# Altium footprint library silabs.PCBLIB: 6 footprints
Each footprint in its own frame and in the unit in brackets; x right, y up, seen from the top. Pads: shape width x height; smd on the part's side, far side on the other; paste and mask are expansions set on the pad; w line width, h text height; cw(c..) or ccw(c..) is an arc to the next point about the centre after c.
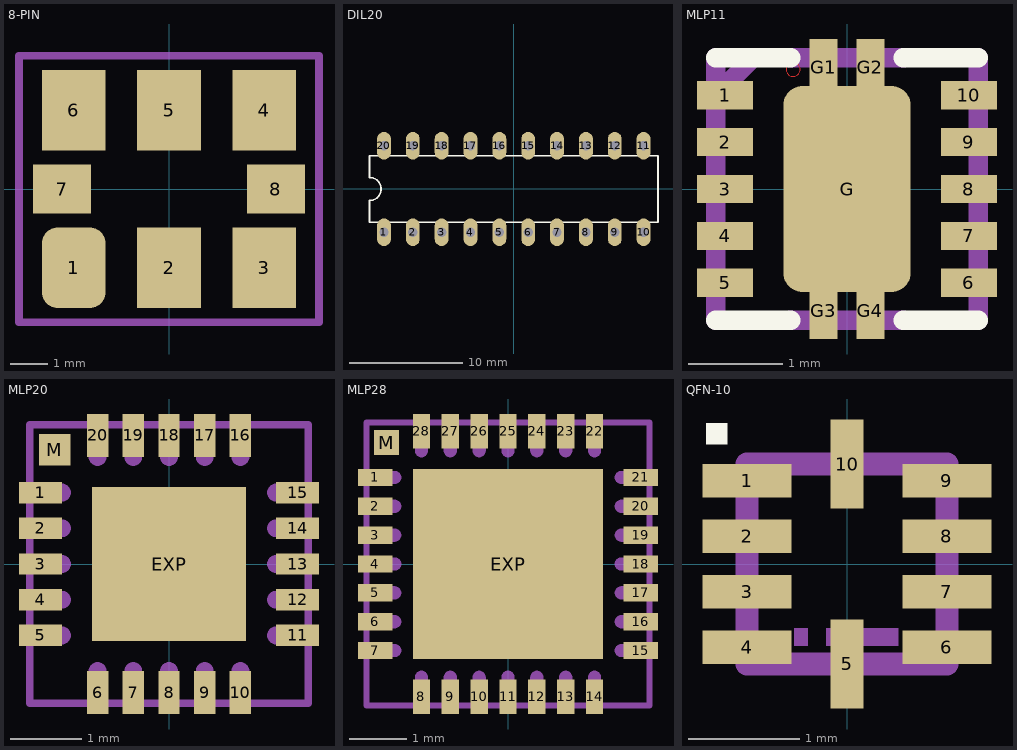
[diagram p0: the footprints below, top view; thin cyan lines are the x and y axes]

## 8-PIN [mm]
pads (8):
  rrect50% 1.7x2.15 smd: 1(-2.54,-2.1)
  rect 1.7x2.15 smd: 2(0,-2.1) 3(2.54,-2.1) 4(2.54,2.1) 5(0,2.1) 6(-2.54,2.1)
  rect 1.545x1.3 smd: 7(-2.852,0) 8(2.852,0)
Top Paste:
  rectangle: -3.325,1.075 -1.75,3.1
  rectangle: -3.55,-0.6 -2.15,0.6
  rectangle: -0.775,1.075 0.775,3.1
  region: 3.325,-1.075 1.75,-1.075 1.75,-3.1 3.325,-3.1
  region: 3.55,0.6 2.15,0.6 2.15,-0.6 3.55,-0.6
  region: 0.775,-1.075 -0.775,-1.075 -0.775,-3.1 0.775,-3.1
  region: 3.325,3.1 1.775,3.1 1.775,1.075 3.325,1.075
  region: 0,0 0.254,0 0.254,0.254 0,0.254
Top Solder:
  rectangle: -3.5,0.925 -1.575,3.275
  rectangle: -3.725,-0.75 -1.975,0.75
  rectangle: -0.96,0.925 0.965,3.275
  rectangle: 1.58,0.925 3.505,3.275
  region: 3.5,-0.925 1.575,-0.925 1.575,-3.275 3.5,-3.275
  region: 3.725,0.75 1.975,0.75 1.975,-0.75 3.725,-0.75
  region: 0.96,-0.925 -0.965,-0.925 -0.965,-3.275 0.96,-3.275
  region: 0,0 0.254,0 0.254,0.254 0,0.254
Mechanical 16:
  lines w0.203: -4,-3.55 4,-3.55 4,3.55 -4,3.55 -4,-3.55

## DIL20 [mil]
pads (20):
  oval 48x96 hole 32: 1(-450,-150) 2(-350,-150) 3(-250,-150) 4(-150,-150) 5(-50,-150) 6(50,-150) 7(150,-150) 8(250,-150) 9(350,-150) 10(450,-150) 11(450,150) 12(350,150) 13(250,150) 14(150,150) 15(50,150) 16(-50,150) 17(-150,150) 18(-250,150) 19(-350,150) 20(-450,150)
Top Overlay:
  lines w6: -500,-115 500,-115 500,115 -500,115 -500,40 cw(c-500,0) -500,-40 -500,-115

## MLP11 [mm]
pads (15):
  rect 0.6x0.3 smd: 1(-1.3,1) 2(-1.3,0.5) 3(-1.3,0) 4(-1.3,-0.5) 5(-1.3,-1) 6(1.3,-1) 7(1.3,-0.5) 8(1.3,0) 9(1.3,0.5) 10(1.3,1)
  rrect30% 1.36x2.2 smd: G(0,0)
  rect 0.3x0.6 smd: G1(-0.25,1.3) G2(0.25,1.3) G3(-0.25,-1.3) G4(0.25,-1.3)
Top Layer:
  circle w0: c-0.575,1.275 r0.075
Top Overlay:
  lines w0.203: -1.4,-1.4 -0.6,-1.4 ; -1.4,1.4 -0.6,1.4 ; 0.6,-1.4 1.4,-1.4 ; 0.6,1.4 1.4,1.4
Top Paste:
  rectangle: -0.39,1.01 -0.11,1.59
  rectangle: 0.11,1.01 0.39,1.59
  rectangle: -0.29,0.36 0.29,0.64
  rectangle: -0.29,-0.14 0.29,0.14
  rectangle: -0.29,-0.64 0.29,-0.36
  rectangle: -0.39,-1.59 -0.11,-1.01
  rectangle: 0.11,-1.59 0.39,-1.01
  rectangle: -1.59,0.86 -1.01,1.14
  rectangle: -1.59,0.36 -1.01,0.64
  rectangle: -1.59,-0.14 -1.01,0.14
  rectangle: -1.59,-0.64 -1.01,-0.36
  rectangle: -1.59,-1.14 -1.01,-0.86
  rectangle: 1.01,-1.14 1.59,-0.86
  rectangle: 1.01,-0.64 1.59,-0.36
  rectangle: 1.01,-0.14 1.59,0.14
  rectangle: 1.01,0.36 1.59,0.64
  rectangle: 1.01,0.86 1.59,1.14
Top Solder:
  rectangle: -0.4,1 -0.1,1.6
  rectangle: 0.1,1 0.4,1.6
  rectangle: -0.3,0.35 0.3,0.65
  rectangle: -0.3,-0.15 0.3,0.15
  rectangle: -0.3,-0.65 0.3,-0.35
  rectangle: -0.4,-1.6 -0.1,-1
  rectangle: 0.1,-1.6 0.4,-1
  rectangle: -1.6,0.85 -1,1.15
  rectangle: -1.6,0.35 -1,0.65
  rectangle: -1.6,-0.15 -1,0.15
  rectangle: -1.6,-0.65 -1,-0.35
  rectangle: -1.6,-1.15 -1,-0.85
  rectangle: 1,0.85 1.6,1.15
  rectangle: 1,0.35 1.6,0.65
  rectangle: 1,-0.15 1.6,0.15
  rectangle: 1,-0.65 1.6,-0.35
  rectangle: 1,-1.15 1.6,-0.85
Mechanical 14:
  region: 0,0 0.254,0 0.254,0.254 0,0.254
Mechanical 16:
  lines w0.203: -1.4,-1.4 -1.4,1 ; -1.4,1.4 -1.4,1 ; -1,1.4 -1.4,1 ; -0.6,-1.4 0.6,-1.4 ; -0.6,1.4 0.6,1.4 ; 1.4,-1.4 1.4,1.4

## MLP20 [mm]
pads (22):
  rect 0.6x0.3 smd: 1(-1.8,1) 2(-1.8,0.5) 3(-1.8,0) 4(-1.8,-0.5) 5(-1.8,-1) 11(1.8,-1) 12(1.8,-0.5) 13(1.8,0) 14(1.8,0.5) 15(1.8,1)
  rect 0.3x0.6 smd: 6(-1,-1.8) 7(-0.5,-1.8) 8(0,-1.8) 9(0.5,-1.8) 10(1,-1.8) 16(1,1.8) 17(0.5,1.8) 18(0,1.8) 19(-0.5,1.8) 20(-1,1.8)
  rect 2.15x2.15 smd: EXP(0,0)
  rect 0.435x0.435 smd: M(-1.6,1.6)
Top Paste:
  rectangle: -2.075,0.875 -1.525,1.125
  rectangle: -1.8,1.4 -1.4,1.8
  rectangle: -2.075,0.375 -1.525,0.625
  rectangle: -2.075,-0.125 -1.525,0.125
  rectangle: -2.075,-0.625 -1.525,-0.375
  rectangle: -2.075,-1.125 -1.525,-0.875
  region: -0.875,-2.075 -0.875,-1.525 -1.125,-1.525 -1.125,-2.075
  region: -0.375,-2.075 -0.375,-1.525 -0.625,-1.525 -0.625,-2.075
  region: 0.125,-2.075 0.125,-1.525 -0.125,-1.525 -0.125,-2.075
  region: 0.625,-2.075 0.625,-1.525 0.375,-1.525 0.375,-2.075
  region: 1.125,-2.075 1.125,-1.525 0.875,-1.525 0.875,-2.075
  region: 2.075,-0.875 1.525,-0.875 1.525,-1.125 2.075,-1.125
  region: 2.075,-0.375 1.525,-0.375 1.525,-0.625 2.075,-0.625
  region: 2.075,0.125 1.525,0.125 1.525,-0.125 2.075,-0.125
  region: 2.075,0.625 1.525,0.625 1.525,0.375 2.075,0.375
  region: 2.075,1.125 1.525,1.125 1.525,0.875 2.075,0.875
  region: 0.875,2.075 0.875,1.525 1.125,1.525 1.125,2.075
  region: 0.375,2.075 0.375,1.525 0.625,1.525 0.625,2.075
  region: -0.125,2.075 -0.125,1.525 0.125,1.525 0.125,2.075
  region: -0.625,2.075 -0.625,1.525 -0.375,1.525 -0.375,2.075
  region: -1.125,2.075 -1.125,1.525 -0.875,1.525 -0.875,2.075
  rectangle: -0.775,0.625 -0.225,0.875
  rectangle: 0.225,0.625 0.775,0.875
  rectangle: -0.775,0.125 -0.225,0.375
  rectangle: 0.225,0.125 0.775,0.375
  rectangle: -0.775,-0.375 -0.225,-0.125
  rectangle: 0.225,-0.375 0.775,-0.125
  rectangle: -0.775,-0.875 -0.225,-0.625
  rectangle: 0.225,-0.875 0.775,-0.625
Top Solder:
  rectangle: -2.1,0.85 -1.5,1.15
  rectangle: -1.82,1.38 -1.38,1.82
  rectangle: -2.1,0.35 -1.5,0.65
  rectangle: -2.1,-0.15 -1.5,0.15
  rectangle: -2.1,-0.65 -1.5,-0.35
  rectangle: -2.1,-1.15 -1.5,-0.85
  region: -0.85,-2.1 -0.85,-1.5 -1.15,-1.5 -1.15,-2.1
  region: -0.35,-2.1 -0.35,-1.5 -0.65,-1.5 -0.65,-2.1
  region: 0.15,-2.1 0.15,-1.5 -0.15,-1.5 -0.15,-2.1
  region: 0.65,-2.1 0.65,-1.5 0.35,-1.5 0.35,-2.1
  region: 1.15,-2.1 1.15,-1.5 0.85,-1.5 0.85,-2.1
  region: 2.1,-0.85 1.5,-0.85 1.5,-1.15 2.1,-1.15
  region: 2.1,-0.35 1.5,-0.35 1.5,-0.65 2.1,-0.65
  region: 2.1,0.15 1.5,0.15 1.5,-0.15 2.1,-0.15
  region: 2.1,0.65 1.5,0.65 1.5,0.35 2.1,0.35
  region: 2.1,1.15 1.5,1.15 1.5,0.85 2.1,0.85
  region: 0.85,2.1 0.85,1.5 1.15,1.5 1.15,2.1
  region: 0.35,2.1 0.35,1.5 0.65,1.5 0.65,2.1
  region: -0.15,2.1 -0.15,1.5 0.15,1.5 0.15,2.1
  region: -0.65,2.1 -0.65,1.5 -0.35,1.5 -0.35,2.1
  region: -1.15,2.1 -1.15,1.5 -0.85,1.5 -0.85,2.1
  rectangle: -0.8,0.6 -0.2,0.9
  rectangle: 0.2,0.6 0.8,0.9
  rectangle: -0.8,0.1 -0.2,0.4
  rectangle: 0.2,0.1 0.8,0.4
  rectangle: -0.8,-0.4 -0.2,-0.1
  rectangle: 0.2,-0.4 0.8,-0.1
  rectangle: -0.8,-0.9 -0.2,-0.6
  rectangle: 0.2,-0.9 0.8,-0.6
Mechanical 16:
  circle w0: c-1.6,1.6 r0.15
  rectangle: -2,0.875 -1.5,1.125
  rectangle: -2,0.375 -1.5,0.625
  rectangle: -2,-0.125 -1.5,0.125
  rectangle: -2,-0.625 -1.5,-0.375
  rectangle: -2,-1.125 -1.5,-0.875
  region: -0.875,-2 -0.875,-1.5 -1.125,-1.5 -1.125,-2
  region: -0.375,-2 -0.375,-1.5 -0.625,-1.5 -0.625,-2
  region: 0.125,-2 0.125,-1.5 -0.125,-1.5 -0.125,-2
  region: 0.625,-2 0.625,-1.5 0.375,-1.5 0.375,-2
  region: 1.125,-2 1.125,-1.5 0.875,-1.5 0.875,-2
  region: 2,-0.875 1.5,-0.875 1.5,-1.125 2,-1.125
  region: 2,-0.375 1.5,-0.375 1.5,-0.625 2,-0.625
  region: 2,0.125 1.5,0.125 1.5,-0.125 2,-0.125
  region: 2,0.625 1.5,0.625 1.5,0.375 2,0.375
  region: 2,1.125 1.5,1.125 1.5,0.875 2,0.875
  region: 0.875,2 0.875,1.5 1.125,1.5 1.125,2
  region: 0.375,2 0.375,1.5 0.625,1.5 0.625,2
  region: -0.125,2 -0.125,1.5 0.125,1.5 0.125,2
  region: -0.625,2 -0.625,1.5 -0.375,1.5 -0.375,2
  region: -1.125,2 -1.125,1.5 -0.875,1.5 -0.875,2
  lines w0.102: -1.95,-1.95 1.95,-1.95 1.95,1.95 -1.95,1.95 -1.95,-1.95
  lines w0.15: -1.5,-1.05 ccw(c-1.5,-1) -1.5,-0.95 ; -1.5,-0.55 ccw(c-1.5,-0.5) -1.5,-0.45 ; -1.5,-0.05 ccw(c-1.5,0) -1.5,0.05 ; -1.5,0.45 ccw(c-1.5,0.5) -1.5,0.55 ; -1.5,0.95 ccw(c-1.5,1) -1.5,1.05 ; -1.05,-1.5 cw(c-1,-1.5) -0.95,-1.5 ; -1.05,1.5 ccw(c-1,1.5) -0.95,1.5 ; -0.55,-1.5 cw(c-0.5,-1.5) -0.45,-1.5 ; -0.55,1.5 ccw(c-0.5,1.5) -0.45,1.5 ; -0.05,-1.5 cw(c0,-1.5) 0.05,-1.5 ; -0.05,1.5 ccw(c0,1.5) 0.05,1.5 ; 0.45,-1.5 cw(c0.5,-1.5) 0.55,-1.5 ; 0.45,1.5 ccw(c0.5,1.5) 0.55,1.5 ; 0.95,-1.5 cw(c1,-1.5) 1.05,-1.5 ; 0.95,1.5 ccw(c1,1.5) 1.05,1.5 ; 1.5,-1.05 cw(c1.5,-1) 1.5,-0.95 ; 1.5,-0.55 cw(c1.5,-0.5) 1.5,-0.45 ; 1.5,-0.05 cw(c1.5,0) 1.5,0.05 ; 1.5,0.45 cw(c1.5,0.5) 1.5,0.55 ; 1.5,0.95 cw(c1.5,1) 1.5,1.05

## MLP28 [mm]
pads (30):
  rect 0.6x0.3 smd: 1(-2.3,1.5) 2(-2.3,1) 3(-2.3,0.5) 4(-2.3,0) 5(-2.3,-0.5) 6(-2.3,-1) 7(-2.3,-1.5) 15(2.3,-1.5) 16(2.3,-1) 17(2.3,-0.5) 18(2.3,0) 19(2.3,0.5) 20(2.3,1) 21(2.3,1.5)
  rect 0.3x0.6 smd: 8(-1.5,-2.3) 9(-1,-2.3) 10(-0.5,-2.3) 11(0,-2.3) 12(0.5,-2.3) 13(1,-2.3) 14(1.5,-2.3) 22(1.5,2.3) 23(1,2.3) 24(0.5,2.3) 25(0,2.3) 26(-0.5,2.3) 27(-1,2.3) 28(-1.5,2.3)
  rect 3.3x3.3 smd: EXP(0,0)
  rect 0.435x0.435 smd: M(-2.103,2.103)
Top Paste:
  rectangle: -2.58,1.37 -2.02,1.63
  rectangle: -2.58,0.87 -2.02,1.13
  rectangle: -2.58,0.37 -2.02,0.63
  rectangle: -2.58,-0.13 -2.02,0.13
  rectangle: -2.58,-0.63 -2.02,-0.37
  rectangle: -2.58,-1.13 -2.02,-0.87
  rectangle: -2.58,-1.63 -2.02,-1.37
  region: -1.37,-2.58 -1.37,-2.02 -1.63,-2.02 -1.63,-2.58
  region: -0.87,-2.58 -0.87,-2.02 -1.13,-2.02 -1.13,-2.58
  region: -0.37,-2.58 -0.37,-2.02 -0.63,-2.02 -0.63,-2.58
  region: 0.13,-2.58 0.13,-2.02 -0.13,-2.02 -0.13,-2.58
  region: 0.63,-2.58 0.63,-2.02 0.37,-2.02 0.37,-2.58
  region: 1.13,-2.58 1.13,-2.02 0.87,-2.02 0.87,-2.58
  region: 1.63,-2.58 1.63,-2.02 1.37,-2.02 1.37,-2.58
  region: 2.58,-1.37 2.02,-1.37 2.02,-1.63 2.58,-1.63
  region: 2.58,-0.87 2.02,-0.87 2.02,-1.13 2.58,-1.13
  region: 2.58,-0.37 2.02,-0.37 2.02,-0.63 2.58,-0.63
  region: 2.58,0.13 2.02,0.13 2.02,-0.13 2.58,-0.13
  region: 2.58,0.63 2.02,0.63 2.02,0.37 2.58,0.37
  region: 2.58,1.13 2.02,1.13 2.02,0.87 2.58,0.87
  region: 2.58,1.63 2.02,1.63 2.02,1.37 2.58,1.37
  region: 1.37,2.58 1.37,2.02 1.63,2.02 1.63,2.58
  region: 0.87,2.58 0.87,2.02 1.13,2.02 1.13,2.58
  region: 0.37,2.58 0.37,2.02 0.63,2.02 0.63,2.58
  region: -0.13,2.58 -0.13,2.02 0.13,2.02 0.13,2.58
  region: -0.63,2.58 -0.63,2.02 -0.37,2.02 -0.37,2.58
  region: -1.13,2.58 -1.13,2.02 -0.87,2.02 -0.87,2.58
  region: -1.63,2.58 -1.63,2.02 -1.37,2.02 -1.37,2.58
  rectangle: -1.28,1.12 -0.72,1.38
  rectangle: -0.28,1.12 0.28,1.38
  rectangle: 0.72,1.12 1.28,1.38
  rectangle: -1.28,0.62 -0.72,0.88
  rectangle: -0.28,0.62 0.28,0.88
  rectangle: 0.72,0.62 1.28,0.88
  rectangle: -1.28,0.12 -0.72,0.38
  rectangle: -0.28,0.12 0.28,0.38
  rectangle: 0.72,0.12 1.28,0.38
  rectangle: -1.28,-0.38 -0.72,-0.12
  rectangle: -0.28,-0.38 0.28,-0.12
  rectangle: 0.72,-0.38 1.28,-0.12
  rectangle: -1.28,-0.88 -0.72,-0.62
  rectangle: -0.28,-0.88 0.28,-0.62
  rectangle: 0.72,-0.88 1.28,-0.62
  rectangle: -1.28,-1.38 -0.72,-1.12
  rectangle: -0.28,-1.38 0.28,-1.12
  rectangle: 0.72,-1.38 1.28,-1.12
  rectangle: -2.3,1.9 -1.9,2.3
Top Solder:
  rectangle: -2.6,1.35 -2,1.65
  rectangle: -2.6,0.85 -2,1.15
  rectangle: -2.6,0.35 -2,0.65
  rectangle: -2.6,-0.15 -2,0.15
  rectangle: -2.6,-0.65 -2,-0.35
  rectangle: -2.6,-1.15 -2,-0.85
  rectangle: -2.6,-1.65 -2,-1.35
  region: -1.35,-2.6 -1.35,-2 -1.65,-2 -1.65,-2.6
  region: -0.85,-2.6 -0.85,-2 -1.15,-2 -1.15,-2.6
  region: -0.35,-2.6 -0.35,-2 -0.65,-2 -0.65,-2.6
  region: 0.15,-2.6 0.15,-2 -0.15,-2 -0.15,-2.6
  region: 0.65,-2.6 0.65,-2 0.35,-2 0.35,-2.6
  region: 1.15,-2.6 1.15,-2 0.85,-2 0.85,-2.6
  region: 1.65,-2.6 1.65,-2 1.35,-2 1.35,-2.6
  region: 2.6,-1.35 2,-1.35 2,-1.65 2.6,-1.65
  region: 2.6,-0.85 2,-0.85 2,-1.15 2.6,-1.15
  region: 2.6,-0.35 2,-0.35 2,-0.65 2.6,-0.65
  region: 2.6,0.15 2,0.15 2,-0.15 2.6,-0.15
  region: 2.6,0.65 2,0.65 2,0.35 2.6,0.35
  region: 2.6,1.15 2,1.15 2,0.85 2.6,0.85
  region: 2.6,1.65 2,1.65 2,1.35 2.6,1.35
  region: 1.35,2.6 1.35,2 1.65,2 1.65,2.6
  region: 0.85,2.6 0.85,2 1.15,2 1.15,2.6
  region: 0.35,2.6 0.35,2 0.65,2 0.65,2.6
  region: -0.15,2.6 -0.15,2 0.15,2 0.15,2.6
  region: -0.65,2.6 -0.65,2 -0.35,2 -0.35,2.6
  region: -1.15,2.6 -1.15,2 -0.85,2 -0.85,2.6
  region: -1.65,2.6 -1.65,2 -1.35,2 -1.35,2.6
  rectangle: -2.353,1.852 -1.852,2.353
  rectangle: -1.3,1.1 -0.7,1.4
  rectangle: -0.3,1.1 0.3,1.4
  rectangle: 0.7,1.1 1.3,1.4
  rectangle: -1.3,0.6 -0.7,0.9
  rectangle: -0.3,0.6 0.3,0.9
  rectangle: 0.7,0.6 1.3,0.9
  rectangle: -1.3,0.1 -0.7,0.4
  rectangle: -0.3,0.1 0.3,0.4
  rectangle: 0.7,0.1 1.3,0.4
  rectangle: -1.3,-0.4 -0.7,-0.1
  rectangle: -0.3,-0.4 0.3,-0.1
  rectangle: 0.7,-0.4 1.3,-0.1
  rectangle: -1.3,-0.9 -0.7,-0.6
  rectangle: -0.3,-0.9 0.3,-0.6
  rectangle: 0.7,-0.9 1.3,-0.6
  rectangle: -1.3,-1.4 -0.7,-1.1
  rectangle: -0.3,-1.4 0.3,-1.1
  rectangle: 0.7,-1.4 1.3,-1.1
Mechanical 16:
  circle w0: c-2.095,2.108 r0.191
  rectangle: -2.5,1.385 -1.985,1.615
  rectangle: -2.5,0.885 -1.985,1.115
  rectangle: -2.5,0.385 -1.985,0.615
  rectangle: -2.5,-0.115 -1.985,0.115
  rectangle: -2.5,-0.615 -1.985,-0.385
  rectangle: -2.5,-1.115 -1.985,-0.885
  rectangle: -2.5,-1.615 -1.985,-1.385
  region: -1.385,-2.5 -1.385,-1.985 -1.615,-1.985 -1.615,-2.5
  region: -0.885,-2.5 -0.885,-1.985 -1.115,-1.985 -1.115,-2.5
  region: -0.385,-2.5 -0.385,-1.985 -0.615,-1.985 -0.615,-2.5
  region: 0.115,-2.5 0.115,-1.985 -0.115,-1.985 -0.115,-2.5
  region: 0.615,-2.5 0.615,-1.985 0.385,-1.985 0.385,-2.5
  region: 1.115,-2.5 1.115,-1.985 0.885,-1.985 0.885,-2.5
  region: 1.615,-2.5 1.615,-1.985 1.385,-1.985 1.385,-2.5
  region: 2.5,-1.385 1.985,-1.385 1.985,-1.615 2.5,-1.615
  region: 2.5,-0.885 1.985,-0.885 1.985,-1.115 2.5,-1.115
  region: 2.5,-0.385 1.985,-0.385 1.985,-0.615 2.5,-0.615
  region: 2.5,0.115 1.985,0.115 1.985,-0.115 2.5,-0.115
  region: 2.5,0.615 1.985,0.615 1.985,0.385 2.5,0.385
  region: 2.5,1.115 1.985,1.115 1.985,0.885 2.5,0.885
  region: 2.5,1.615 1.985,1.615 1.985,1.385 2.5,1.385
  region: 1.385,2.5 1.385,1.985 1.615,1.985 1.615,2.5
  region: 0.885,2.5 0.885,1.985 1.115,1.985 1.115,2.5
  region: 0.385,2.5 0.385,1.985 0.615,1.985 0.615,2.5
  region: -0.115,2.5 -0.115,1.985 0.115,1.985 0.115,2.5
  region: -0.615,2.5 -0.615,1.985 -0.385,1.985 -0.385,2.5
  region: -1.115,2.5 -1.115,1.985 -0.885,1.985 -0.885,2.5
  region: -1.615,2.5 -1.615,1.985 -1.385,1.985 -1.385,2.5
  lines w0.102: -2.451,-2.451 2.451,-2.451 2.451,2.451 -2.451,2.451 -2.451,-2.451
  lines w0.12: -1.965,-1.555 ccw(c-1.965,-1.5) -1.965,-1.445 ; -1.965,-1.055 ccw(c-1.965,-1) -1.965,-0.945 ; -1.965,-0.555 ccw(c-1.965,-0.5) -1.965,-0.445 ; -1.965,-0.055 ccw(c-1.965,0) -1.965,0.055 ; -1.965,0.445 ccw(c-1.965,0.5) -1.965,0.555 ; -1.965,0.945 ccw(c-1.965,1) -1.965,1.055 ; -1.965,1.445 ccw(c-1.965,1.5) -1.965,1.555 ; -1.555,-1.965 cw(c-1.5,-1.965) -1.445,-1.965 ; -1.555,1.965 ccw(c-1.5,1.965) -1.445,1.965 ; -1.055,-1.965 cw(c-1,-1.965) -0.945,-1.965 ; -1.055,1.965 ccw(c-1,1.965) -0.945,1.965 ; -0.555,-1.965 cw(c-0.5,-1.965) -0.445,-1.965 ; -0.555,1.965 ccw(c-0.5,1.965) -0.445,1.965 ; -0.055,-1.965 cw(c0,-1.965) 0.055,-1.965 ; -0.055,1.965 ccw(c0,1.965) 0.055,1.965 ; 0.445,-1.965 cw(c0.5,-1.965) 0.555,-1.965 ; 0.445,1.965 ccw(c0.5,1.965) 0.555,1.965 ; 0.945,-1.965 cw(c1,-1.965) 1.055,-1.965 ; 0.945,1.965 ccw(c1,1.965) 1.055,1.965 ; 1.445,-1.965 cw(c1.5,-1.965) 1.555,-1.965 ; 1.445,1.965 ccw(c1.5,1.965) 1.555,1.965 ; 1.965,-1.555 cw(c1.965,-1.5) 1.965,-1.445 ; 1.965,-1.055 cw(c1.965,-1) 1.965,-0.945 ; 1.965,-0.555 cw(c1.965,-0.5) 1.965,-0.445 ; 1.965,-0.055 cw(c1.965,0) 1.965,0.055 ; 1.965,0.445 cw(c1.965,0.5) 1.965,0.555 ; 1.965,0.945 cw(c1.965,1) 1.965,1.055 ; 1.965,1.445 cw(c1.965,1.5) 1.965,1.555

## QFN-10 [mil]
pads (10):
  rect 31.5x11.81 smd: 1(-35.43,29.53) 2(-35.43,9.84) 3(-35.43,-9.84) 4(-35.43,-29.53) 6(35.43,-29.53) 7(35.43,-9.84) 8(35.43,9.84) 9(35.43,29.53)
  rect 11.81x31.5 smd: 5(0,-35.43) 10(0,35.43)
Top Overlay:
  rectangle: -50,42.32 -42.32,50
Top Paste:
  rectangle: -50.2,24.61 -20.67,34.45
  rectangle: -50.2,4.92 -20.67,14.76
  rectangle: -50.2,-14.76 -20.67,-4.92
  rectangle: -50.2,-34.45 -20.67,-24.61
  region: 4.92,-50.19 4.92,-20.67 -4.92,-20.67 -4.92,-50.19
  region: 50.2,-24.61 20.67,-24.61 20.67,-34.45 50.2,-34.45
  region: 50.2,-4.92 20.67,-4.92 20.67,-14.76 50.2,-14.76
  region: 50.2,14.76 20.67,14.76 20.67,4.92 50.2,4.92
  region: 50.2,34.45 20.67,34.45 20.67,24.61 50.2,24.61
  region: -4.92,50.19 -4.92,20.67 4.92,20.67 4.92,50.19
Top Solder:
  rectangle: -53.15,22.64 -18.7,36.42
  rectangle: -53.15,2.95 -18.7,16.73
  rectangle: -53.15,-16.73 -18.7,-2.95
  rectangle: -53.15,-36.42 -18.7,-22.64
  region: 6.89,-53.15 6.89,-18.71 -6.89,-18.71 -6.89,-53.15
  region: 53.15,-22.64 18.7,-22.64 18.7,-36.42 53.15,-36.42
  region: 53.15,-2.95 18.7,-2.95 18.7,-16.73 53.15,-16.73
  region: 53.15,16.73 18.7,16.73 18.7,2.95 53.15,2.95
  region: 53.15,36.42 18.7,36.42 18.7,22.64 53.15,22.64
  region: -6.89,53.15 -6.89,18.71 6.89,18.71 6.89,53.15
Mechanical 16:
  rectangle: -18.7,-29.04 -13.78,-22.64
  rectangle: -7.38,-29.04 18.21,-22.64
  lines w8: -35.43,-35.43 35.43,-35.43 35.43,35.43 -35.43,35.43 -35.43,-35.43